# Altium schematic symbol library Standard.SchLib: 6 symbols
Pins are listed as number, name and electrical type; pins without a type are passive.

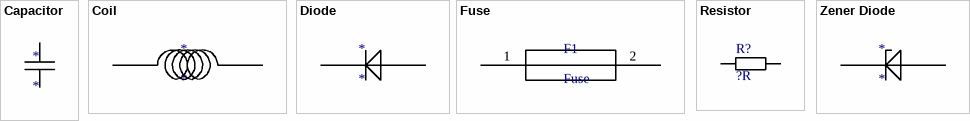
[diagram p0: symbols Capacitor to Zener Diode]

## Capacitor
designator *
footprint C 0805 / 2012 (Capacitor 0805 / 2012 (2.0 x 1.2 mm))
pins: 1, 2 1

## Coil
designator *
pins: 1, 2

## Diode
designator *
pins: 1, 2

## Fuse
designator F1
pins: 1, 2

## Resistor
designator R?, comment ?R
footprint R 0805 / 2012 (Resistor 0805 / 2012 (2.0 x 1.2 mm))
pins: 1, 2

## Zener Diode
designator *
pins: 1, 2